# Altium schematic symbol library BAT54CLT3G.SchLib: 1 symbol
Pins are listed as number, name and electrical type; pins without a type are passive.

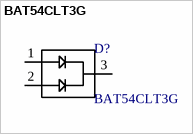
[diagram p0: symbol BAT54CLT3G]

## BAT54CLT3G
designator D?
Manufacturer_Name: ON Semiconductor; Geometry.Height: 1.11mm; Mouser Part Number: 863-BAT54CLT3G; Manufacturer_Part_Number: BAT54CLT3G; Datasheet Link: https://componentsearchengine.com/Datasheets/1/BAT54CLT3G.pdf
footprint SOT96P237X111-3N
pins: 1 A1, 2 A2, 3 K